# Altium schematic symbol library DIODE.SCHLIB: 10 symbols
Pins are listed as number, name and electrical type; pins without a type are passive.

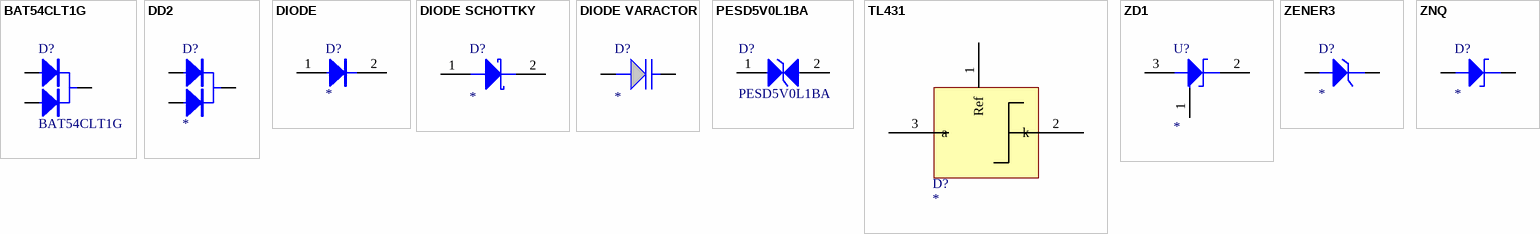
[diagram p0: symbols BAT54CLT1G to ZNQ]

## BAT54CLT1G
designator D?
footprint SOT-23
pins: 1, 2, 3

## DD2
designator D?
footprint SMDQ
pins: 1, 2, 3

## DIODE
designator D?
footprint SMD4148
footprint SMD5819
footprint DIODE-DIP1
footprint D2
pins: 1, 2

## DIODE SCHOTTKY
designator D?
Schottky Diode
pins: 1, 2

## DIODE VARACTOR
designator D?
Text Field1: 30; Text Field2: 20
footprint DIODE
pins: 1 ANODE, 2 CATHODE

## PESD5V0L1BA
designator D?
Zener Diode
pins: 1, 2

## TL431
designator D?
footprint SOT-23
pins: 1 Ref, 2 k, 3 a
2 alternate drawings of the same symbol

## ZD1
designator U?
Zener Diode
footprint DIPQ1
pins: 1, 2, 3

## ZENER3
designator D?
Zener Diode
footprint D1
pins: 1, 2

## ZNQ
designator D?
Zener Diode
footprint D1
pins: 1, 2